# Altium schematic symbol library STM32_BluePill.SchLib: 1 symbol
Pins are listed as number, name and electrical type; pins without a type are passive.

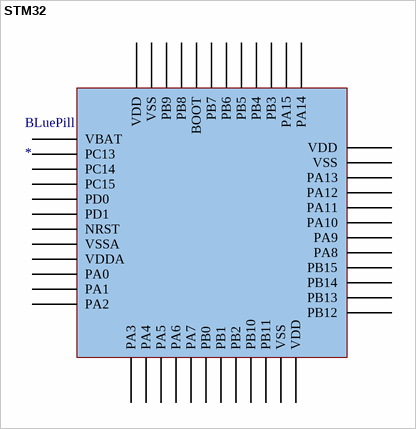
[diagram p0: symbol STM32]

## STM32
designator BLuePill
pins: ?1 VBAT, ?2 PC13, ?3 PC14, ?4 PC15, ?5 PD0, ?6 PD1, ?7 NRST, ?8 VSSA, ?9 VDDA, ?10 PA0, ?11 PA1, ?12 PA2, ?13 PA3, ?14 PA4, ?15 PA5, ?16 PA6, ?17 PA7, ?18 PB0, ?19 PB1, ?20 PB2, ?21 PB10, ?22 PB11, ?23 VSS, ?24 VDD, ?25 PB12, ?26 PB13, ?27 PB14, ?28 PB15, ?29 PA8, ?30 PA9, ?31 PA10, ?32 PA11, ?33 PA12, ?34 PA13, ?35 VSS, ?36 VDD, ?37 PA14, ?38 PA15, ?39 PB3, ?40 PB4, ?41 PB5, ?42 PB6, ?43 PB7, ?44 BOOT, ?45 PB8, ?46 PB9, ?47 VSS, ?48 VDD